# EAGLE library part ATTINY26(L) (library IC)
Atmel ATTINY26(L) 8bit AVR microcontroller with 2K bytes Flash
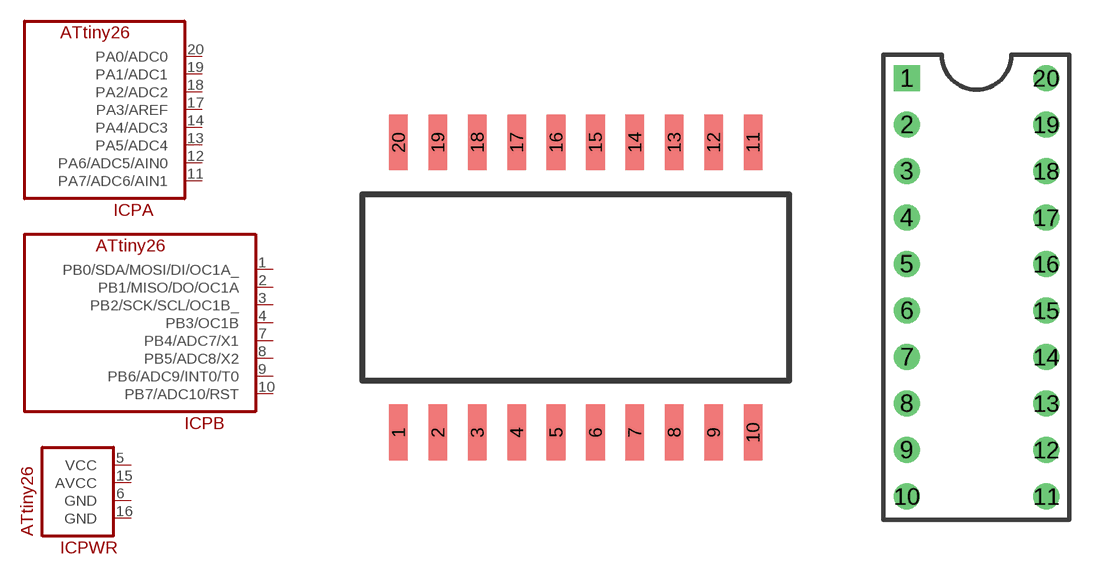
[diagram p88: symbol with the pads of SOIC20; footprints SOIC20, DIP-20C]

Designator prefix IC; gates PA=ATTINY26(L)_PA PB=ATTINY26(L)_PB PWR=ATTINY26(L)_PWR

## ATTINY26(L)-SIOC20  [SOIC20]
1  PB:PB0/SDA/MOSI/DI/OC1A_
2  PB:PB1/MISO/DO/OC1A
3  PB:PB2/SCK/SCL/OC1B_
4  PB:PB3/OC1B
5  PWR:VCC  pwr
6  PWR:GND  pwr
7  PB:PB4/ADC7/X1
8  PB:PB5/ADC8/X2
9  PB:PB6/ADC9/INT0/T0
10  PB:PB7/ADC10/RST
11  PA:PA7/ADC6/AIN1
12  PA:PA6/ADC5/AIN0
13  PA:PA5/ADC4
14  PA:PA4/ADC3
15  PWR:AVCC  pwr
16  PWR:GND  pwr
17  PA:PA3/AREF
18  PA:PA2/ADC2
19  PA:PA1/ADC1
20  PA:PA0/ADC0

## ATTINY26(L)-DIP20  [DIP-20C]
Pads as for SOIC20

## ATTINY26(L)-MLF32  [MLF-32]
2  PB:PB3/OC1B
4  PWR:VCC  pwr
5  PWR:GND  pwr
7  PB:PB4/ADC7/X1
8  PB:PB5/ADC8/X2
10  PB:PB6/ADC9/INT0/T0
11  PB:PB7/ADC10/RST
13  PA:PA7/ADC6/AIN1
14  PA:PA6/ADC5/AIN0
15  PA:PA5/ADC4
17  PA:PA4/ADC3
18  PWR:AVCC  pwr
21  PWR:GND  pwr
22  PA:PA3/AREF
23  PA:PA2/ADC2
25  PA:PA1/ADC1
26  PA:PA0/ADC0
30  PB:PB0/SDA/MOSI/DI/OC1A_
31  PB:PB1/MISO/DO/OC1A
32  PB:PB2/SCK/SCL/OC1B_

## Footprint SOIC20 (pad centres in mm)
SOIC-20, 1.27mm pitch, 10.55mm width, 12.95mm length
smd 0.6 x 1.8: 1 -5.715,-4.679; 2 -4.445,-4.679; 3 -3.175,-4.679; 4 -1.905,-4.679; 5 -0.635,-4.679; 6 0.635,-4.679; 7 1.905,-4.679; 8 3.175,-4.679; 9 4.445,-4.679; 10 5.715,-4.679; 11 5.715,4.679; 12 4.445,4.679; 13 3.175,4.679; 14 1.905,4.679; 15 0.635,4.679; 16 -0.635,4.679; 17 -1.905,4.679; 18 -3.175,4.679; 19 -4.445,4.679; 20 -5.715,4.679

## Footprint DIP-20C (pad centres in mm)
drill 0.889 square: 1 -3.81,11.43
drill 0.889 round: 2 -3.81,8.89; 3 -3.81,6.35; 4 -3.81,3.81; 5 -3.81,1.27; 6 -3.81,-1.27; 7 -3.81,-3.81; 8 -3.81,-6.35; 9 -3.81,-8.89; 10 -3.81,-11.43; 11 3.81,-11.43; 12 3.81,-8.89; 13 3.81,-6.35; 14 3.81,-3.81; 15 3.81,-1.27; 16 3.81,1.27; 17 3.81,3.81; 18 3.81,6.35; 19 3.81,8.89; 20 3.81,11.43

## Footprint MLF-32 (pad centres in mm)
ATMEL MLF32 pin package
smd 0.8 x 0.32: 1 -2.5,1.75; 2 -2.5,1.25; 3 -2.5,0.75; 4 -2.5,0.25; 5 -2.5,-0.25; 6 -2.5,-0.75; 7 -2.5,-1.25; 8 -2.5,-1.75; 17 2.5,-1.75; 18 2.5,-1.25; 19 2.5,-0.75; 20 2.5,-0.25; 21 2.5,0.25; 22 2.5,0.75; 23 2.5,1.25; 24 2.5,1.75
smd 0.32 x 0.8: 9 -1.75,-2.5; 10 -1.25,-2.5; 11 -0.75,-2.5; 12 -0.25,-2.5; 13 0.25,-2.5; 14 0.75,-2.5; 15 1.25,-2.5; 16 1.75,-2.5; 25 1.75,2.5; 26 1.25,2.5; 27 0.75,2.5; 28 0.25,2.5; 29 -0.25,2.5; 30 -0.75,2.5; 31 -1.25,2.5; 32 -1.75,2.5
smd 3 x 3: PAD 0,0